# Altium schematic symbol library KH-TYPE-6C-6P.SCHLIB: 1 symbol
Pins are listed as number, name and electrical type; pins without a type are passive.

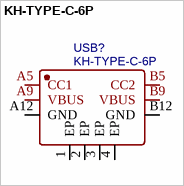
[diagram p0: symbol KH-TYPE-C-6P]

## KH-TYPE-C-6P
designator USB?
BOM_Manufacturer: Shenzhen Kinghelm Elec; Contributor: LCSC; BOM_Supplier: LCSC; BOM_Supplier Part: C709355; BOM_Manufacturer Part: KH-TYPE-C-6P; BOM_JLCPCB Part Class: Extended Part; spicePre: U; spiceSymbolName: KH-TYPE-C-6P
footprint TYPE-C-SMD_TYPE-C-31-M-16
pins: 1 EP, 2 EP, 3 EP, 4 EP, A5 CC1, A9 VBUS, A12 GND, B5 CC2, B9 VBUS, B12 GND